# EAGLE library part SMARTRESPONSEXE (library smartresponse)
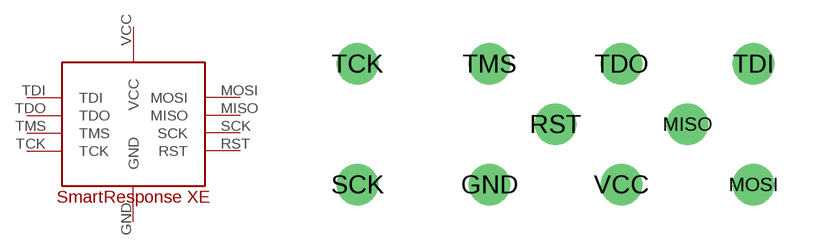
[diagram p0: symbol with the pads of SMARTRESPONSEXEPOGO; footprint SMARTRESPONSEXEPOGO]

Designator prefix -

## SMARTRESPONSEXE  [SMARTRESPONSEXEPOGO]
GND  GND
MISO  MISO
MOSI  MOSI
RST  RST
SCK  SCK
TCK  TCK
TDI  TDI
TDO  TDO
TMS  TMS
VCC  VCC

## Footprint SMARTRESPONSEXEPOGO (pad centres in mm)
drill 1: GND -2.4,-2.2; MISO 4.8,0; MOSI 7.2,-2.2; RST 0,0; SCK -7.2,-2.2; TCK -7.2,2.2; TDI 7.2,2.2; TDO 2.4,2.2; TMS -2.4,2.2; VCC 2.4,-2.2